# Altium footprint library ptc-littlefuse.PCBLIB: 3 footprints
Each footprint in its own frame and in the unit in brackets; x right, y up, seen from the top. Pads: shape width x height; smd on the part's side, far side on the other; paste and mask are expansions set on the pad; w line width, h text height; cw(c..) or ccw(c..) is an arc to the next point about the centre after c.
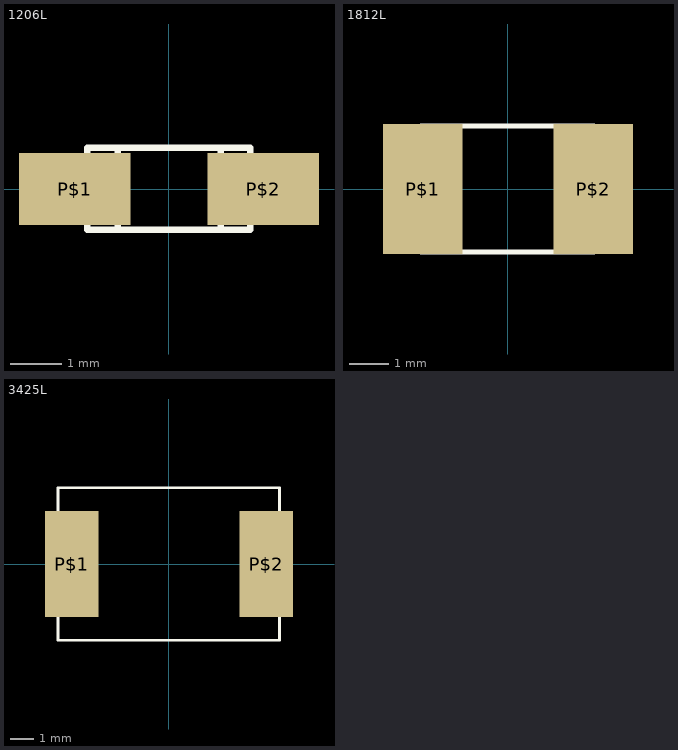
[diagram p0: the footprints below, top view; thin cyan lines are the x and y axes]

## 1206L [mil]
pads (2):
  rect 86x56 smd: P$1(-72.83,0) P$2(73,0)
Top Overlay:
  lines w5: -39.37,-31.5 40,-31.5 ; -39.37,-31.5 -62.99,-31.5 -62.99,-11.81 ccw(c-62.99,0.09) -62.99,12 -62.99,32 -39.37,32 ; -39.37,-31.5 -39.37,32 ; -39.37,32 40,32 ; 40,-31.5 63,-31.5 63,-11.81 cw(c63,0.09) 63,12 63,32 40,32 ; 40,-31.5 40,32

## 1812L [mil]
pads (2):
  rect 80x130 smd: P$1(-85.04,0) P$2(86,0)
Top Overlay:
  lines w5: -59.06,-62.99 60,-62.99 ; -59.06,-62.99 -86.61,-62.99 -86.61,-15.75 ccw(c-86.61,0.13) -86.61,16 -86.61,63 -59.06,63 ; -59.06,-62.99 -59.06,63 ; -59.06,63 60,63 ; 60,-62.99 87,-62.99 87,-15.75 cw(c87,0.13) 87,16 87,63 60,63 ; 60,-62.99 60,63

## 3425L [mil]
pads (2):
  rect 91x180 smd: P$1(-165.35,0) P$2(166,0)
Top Overlay:
  lines w5: -188.98,-70.87 -188.98,-129.92 189,-129.92 189,-70.87 ; -188.98,-70.87 -188.98,71 ; -188.98,-70.87 -177.17,-70.87 -177.17,71 -188.98,71 ; -188.98,71 -188.98,130 189,130 189,71 ; 189,-70.87 189,71 ; 189,-70.87 178,-70.87 178,71 189,71